# Altium schematic symbol library DIODE,Gen,75V,150mA,SOD523F.Schlib: 1 symbol
Pins are listed as number, name and electrical type; pins without a type are passive.

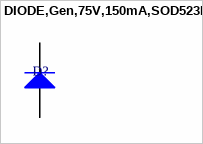
[diagram p0: symbol DIODE,Gen,75V,150mA,SOD523F]

## DIODE,Gen,75V,150mA,SOD523F
designator D?
pins: 1 K, 2 A